# EAGLE library part MM74HC595 (library Nwazet.Go)
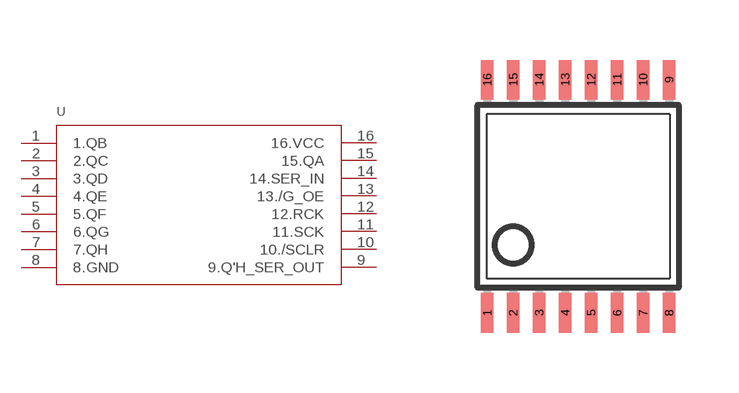
[diagram p13: symbol with the pads of TSSOP16; footprint TSSOP16]

Designator prefix -

## MM74HC595  [TSSOP16]
1  1.QB
2  2.QC
3  3.QD
4  4.QE
5  5.QF
6  6.QG
7  7.QH
8  8.GND  pas
9  9.Q'H_SER_OUT
10  10./SCLR
11  11.SCK
12  12.RCK
13  13./G_OE
14  14.SER_IN
15  15.QA
16  16.VCC  pwr

## Footprint TSSOP16 (pad centres in mm)
Thin Shrink Small Outline Plastic 16 MAX3223-MAX3243.pdf
smd 0.305 x 0.991: 1 -2.275,-2.918; 2 -1.625,-2.918; 3 -0.975,-2.918; 4 -0.325,-2.918; 5 0.325,-2.918; 6 0.975,-2.918; 7 1.625,-2.918; 8 2.275,-2.918; 9 2.275,2.918; 10 1.625,2.918; 11 0.975,2.918; 12 0.325,2.918; 13 -0.325,2.918; 14 -0.975,2.918; 15 -1.625,2.918; 16 -2.275,2.918